# Altium schematic symbol library Schlib_Smart_Switchboard.SchLib: 52 symbols
Pins are listed as number, name and electrical type; pins without a type are passive.

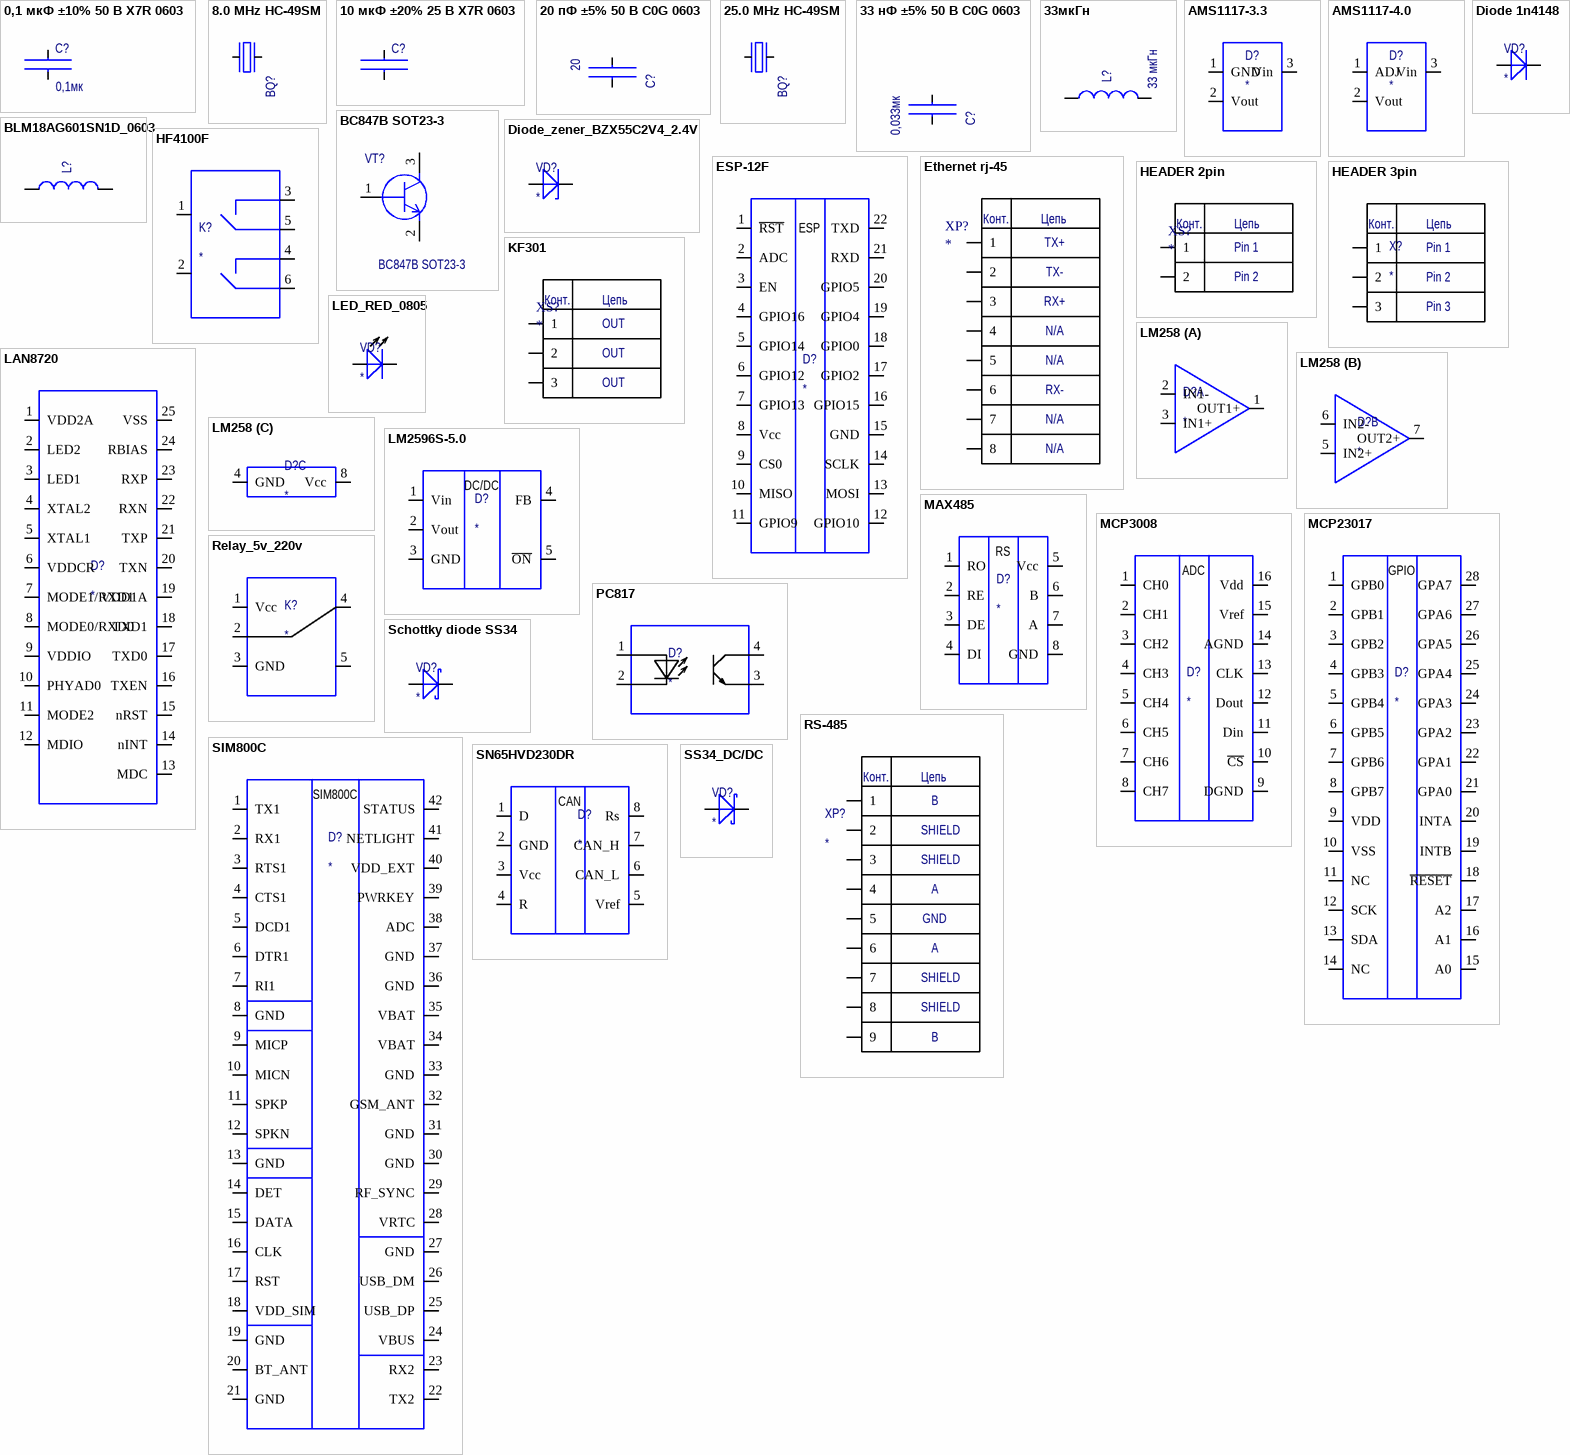
[diagram p0: symbols 0,1 мкФ ±10% 50 В X7R 0603 to SS34_DC/DC]

## 0,1 мкФ ±10% 50 В X7R 0603
designator C?, comment Capacitor  (value not drawn)
0,1 мкФ ±10% 50 В X7R 0603; Manufacturer 1: YAGEO; Manufacturer Part Number 1: CC0603JRX7R9BB104; Tolerance: ±5%; Voltage: 50 В; Part Number: 0,1 мкФ ±10% 50 В X7R 0603; Dielectric: X7R; Size: 0603; 0,1мк: 0,1мк
footprint C0603
pins: 1, 2

## 8.0 MHz HC-49SM
designator BQ?, comment Quartz Crystal  (value not drawn)
Кварцевый резонатор 1-2 выводы; Manufacturer 1: SJK; Manufacturer Part Number 1: SJK-6C-8.000-16-30-50-C-50-HSJK-6C-8.000-16-30-50-C-50-H; CompType: 25.0 MHz; Value: 8 МГц; Size: HC-49
footprint HC49_SMD
pins: 1, 2

## 10 мкФ ±20% 25 В X7R 0603
designator C?, comment Capacitor  (value not drawn)
Manufacturer 1: MURATA; Manufacturer Part Number 1: GRM188R61C106KAALD; Tolerance: ±10%; Voltage: 16 В; Dielectric: X5R; Size: 0603
footprint C0603
pins: 1, 2

## 20 пФ ±5% 50 В C0G 0603
designator C?, comment value 20  (hidden comment: Capacitor)
20 пФ ±5% 50 В C0G 0603; Part Number: 20 пФ ±5% 50 В NPO 0603; Manufacturer 1: MURATA; Manufacturer Part Number 1: GRM1885C1H200J; Voltage: 50 В; Dielectric: NPO; Tolerance: ±5%; Size: 0603
footprint C0603
pins: 1, 2

## 25.0 MHz HC-49SM
designator BQ?, comment Quartz Crystal  (value not drawn)
Кварцевый резонатор 1-2 выводы; Manufacturer 1: SJK; Manufacturer Part Number 1: SJK-6C-25.000-16-50-30-F-C-50-HJ; CompType: 25.0 MHz; Value: 25 МГц; Size: HC-49
footprint HC49_SMD
pins: 1, 2

## 33 нФ ±5% 50 В C0G 0603
designator C?, comment value 0,033мк  (hidden comment: Capacitor)
Manufacturer 1: MURATA; Manufacturer Part Number 1: GRM188F51E333ZA01D; Tolerance: ±10%; Voltage: 25 В; Dielectric: Y5V; Size: 0603
footprint R0603
pins: 1, 2

## 33мкГн
designator L?, comment value 33 мкГн  (hidden comment: Inductor)
Manufacturer Part Number 1: CDSPQ105-330M; Manufacturer 1: CODACA; Tolerance: ±20%
footprint CDRH127
pins: 1, 2

## AMS1117-3.3
designator D?
Manufacturer 1: UMW; Manufacturer Part Number 1: AMS1117-3.3
footprint SOT230P700X180-4N (SOT223, 4-Leads, Body 6,50x7,00mm (avg), Pitch 2,30mm, IPC Medium Density)
pins: 1 GND, 2 Vout, 3 Vin

## AMS1117-4.0
designator D?
Manufacturer 1: UMW; Manufacturer Part Number 1: AMS1117-3.3
footprint SOT230P700X180-4N (SOT223, 4-Leads, Body 6,50x7,00mm (avg), Pitch 2,30mm, IPC Medium Density)
pins: 1 ADJ, 2 Vout, 3 Vin

## BC847B SOT23-3
designator VT?
NPN Transistor; Manufacturer 1: Hottech; Part Number: BC847B SOT23-3; CompType: BC847B; Size: SOT23-3; Manufacturer Part Number 1: BC847B
footprint INF-SOT23_M (SOT23, 3-Leads, Body 2.9x1.3 mm, Pitch 0.95 mm, IPC Low Density)
pins: 1 B, 2 E, 3 K

## BLM18AG601SN1D_0603
designator L?, comment Inductor  (value not drawn)
Manufacturer Part Number 1: BLM18AG601SN1D; Manufacturer 1: MURATA
footprint L0603
pins: 1, 2

## Diode 1n4148
designator VD?
Manufacturer Part Number 1: 1N4148WS; Manufacturer 1: Hottech
footprint SOD323 (SOD, 2-Leads, Body 1.25x2.50mm, IPC Medium Density)
pins: 1, 2

## Diode_zener_BZX55C2V4_2.4V
designator VD?
Diode_zener_BZX55C2V4_2.4V; Manufacturer 1: LGE; Manufacturer Part Number 1: BZX55C2V4
footprint DO-35 (Diode, Axial; Body 3.8 x 1.9 mm (LxDia. max), Lead Dia. 0.53 mm (max))
pins: 1, 2

## ESP-12F
designator D?
footprint ESP8266 ESP-12-E
pins: 1 ~{RST}, 2 ADC, 3 EN, 4 GPIO16, 5 GPIO14, 6 GPIO12, 7 GPIO13, 8 Vcc, 9 CS0, 10 MISO, 11 GPIO9, 12 GPIO10, 13 MOSI, 14 SCLK, 15 GND, 16 GPIO15, 17 GPIO2, 18 GPIO0, 19 GPIO4, 20 GPIO5, 21 RXD, 22 TXD
text: ESP

## Ethernet rj-45
designator XP?
Ethernet
footprint RJ-45 (Connector; PCB Jack, Thru-Hole; 1-Port; Unshielded without Lightpipes; Right Angle)
pins: 1, 2, 3, 4, 5, 6, 7, 8
text: Конт.; Цепь; TX+; TX-; RX+; N/A; RX-

## HEADER 2pin
designator XS?
footprint HEADER 2 Pin
pins: 1, 2
text: Конт.; Цепь; Pin 1; Pin 2

## HEADER 3pin
designator X?
footprint HEADER-3pin
pins: 1, 2, 3
text: Конт.; Цепь; Pin 1; Pin 2; Pin 3

## HF4100F
designator K?
footprint HK4100F
pins: 1, 2, 3, 4, 5, 6

## KF301
designator XS?
Manufacturer Part Number 1: KF301-5.0-3P; Manufacturer 1: CIXI SANHE
footprint KF301-5.08-3P (KF301, pitch 5.08mm, 3Pins, 300V, 16A (250V, 17A))
pins: 1, 2, 3
text: Конт.; Цепь; OUT

## LAN8720
designator D?
Manufacturer Part Number 1: LAN8720AI-CP-TR; Manufacturer 1: Microchip Technology
footprint SLAB-QFN-24-2675x2675TP_N (QFN, 24-Leads, Body 4x4mm, Pitch 0.5mm, Thermal Pad 2.68x2.68mm, IPC Medium Density)
pins: 1 VDD2A, 2 LED2, 3 LED1, 4 XTAL2, 5 XTAL1, 6 VDDCR, 7 MODE1/RXD1, 8 MODE0/RXD0, 9 VDDIO, 10 PHYAD0, 11 MODE2, 12 MDIO, 13 MDC, 14 nINT, 15 nRST, 16 TXEN, 17 TXD0, 18 TXD1, 19 VDD1A, 20 TXN, 21 TXP, 22 RXN, 23 RXP, 24 RBIAS, 25 VSS

## LED_RED_0805
designator VD?
Manufacturer Part Number 1: KPHCM-2012SURCK; Manufacturer 1: Kingbright
footprint VD0805
pins: 1, 2

## LM258
designator D?
Manufacturer 1: Texas Instruments; Manufacturer Part Number 1: LM258ADR
footprint TI VSSOP-8 DGK (TSOP, 8-Leads, Body 3.00x3.00mm, Pitch 0.65mm, IPC Medium Density)
part A pins: 1 OUT1+, 2 IN1-, 3 IN1+
part B pins: 5 IN2+, 6 IN2-, 7 OUT2+
part C pins: 4 GND, 8 Vcc

## LM2596S-5.0
designator D?
Manufacturer 1: UMW; Manufacturer Part Number 1: LM2596S-5.0
footprint TO-263-5 (D2-PAK, 6-Pads, Body 8,9x9,9mm (max), IPC Low Density)
pins: 1 Vin, 2 Vout, 3 GND, 4 FB, 5 ~{ON}
text: DC/DC

## MAX485
designator D?
Manufacturer 1: UMW; Manufacturer Part Number 1: MAX485ESA
footprint SOIC-8
pins: 1 RO, 2 RE, 3 DE, 4 DI, 5 Vcc, 6 B, 7 A, 8 GND
text: RS

## MCP3008
designator D?
Manufacturer 1: Microchip Technology; Manufacturer Part Number 1: MCP3008-I/SL
footprint SO-16 (SOIC, 16-Leads, Body 9.9x3.9mm, Pitch 1.27mm, IPC Medium Density)
pins: 1 CH0, 2 CH1, 3 CH2, 4 CH3, 5 CH4, 6 CH5, 7 CH6, 8 CH7, 9 DGND, 10 ~{CS}, 11 Din, 12 Dout, 13 CLK, 14 AGND, 15 Vref, 16 Vdd
text: ADC

## MCP23017
designator D?
Manufacturer 1: Microchip Technology; Manufacturer Part Number 1: MCP23017-E/SO
footprint SOP-28 (SOP, 28-Leads, Body 10,30x7,50mm, Pitch 1,27mm, IPC Medium Density)
pins: 1 GPB0, 2 GPB1, 3 GPB2, 4 GPB3, 5 GPB4, 6 GPB5, 7 GPB6, 8 GPB7, 9 VDD, 10 VSS, 11 NC, 12 SCK, 13 SDA, 14 NC, 15 A0, 16 A1, 17 A2, 18 ~{RESET}, 19 INTB, 20 INTA, 21 GPA0, 22 GPA1, 23 GPA2, 24 GPA3, 25 GPA4, 26 GPA5, 27 GPA6, 28 GPA7
text: GPIO

## PC817
designator D?
Manufacturer 1: UMW; Manufacturer Part Number 1: PC817C
footprint Model Name (Footprint not found)
footprint DIP-4
pins: 1 Anode, 2 Cathode, 3 Emitter, 4 Collector

## Relay_5v_220v
designator K?
Manufacturer 1: Ningbo Songle Relay; Manufacturer Part Number 1: SRD-05VDC-SL-C
footprint SRD-S-124D4
footprint SRD-S-124D4
pins: 1 Vcc, 2, 3 GND, 4, 5

## RS-485
designator XP?
footprint D-SUB 9
pins: 1, 2, 3, 4, 5, 6, 7, 8, 9
text: Конт.; Цепь; B; SHIELD; A; GND

## Schottky diode SS34
designator VD?
footprint SOD323 (SOD, 2-Leads, Body 1.25x2.50mm, IPC Medium Density)
pins: 1, 2

## SIM800C
designator D?
footprint SIM800C
pins: 1 TX1, 2 RX1, 3 RTS1, 4 CTS1, 5 DCD1, 6 DTR1, 7 RI1, 8 GND, 9 MICP, 10 MICN, 11 SPKP, 12 SPKN, 13 GND, 14 DET, 15 DATA, 16 CLK, 17 RST, 18 VDD_SIM, 19 GND, 20 BT_ANT, 21 GND, 22 TX2, 23 RX2, 24 VBUS, 25 USB_DP, 26 USB_DM, 27 GND, 28 VRTC, 29 RF_SYNC, 30 GND, 31 GND, 32 GSM_ANT, 33 GND, 34 VBAT, 35 VBAT, 36 GND, 37 GND, 38 ADC, 39 PWRKEY, 40 VDD_EXT, 41 NETLIGHT, 42 STATUS

## SN65HVD230DR
designator D?
footprint SOIC-8
pins: 1 D, 2 GND, 3 Vcc, 4 R, 5 Vref, 6 CAN_L, 7 CAN_H, 8 Rs
text: CAN

## SS34_DC/DC
designator VD?
Manufacturer Part Number 1: SS34; Manufacturer 1: UMW
footprint DO214AC SMA (Molded Diode, 2-Leads, Body 4.30x2.60mm, IPC Medium Density)
pins: 1, 2

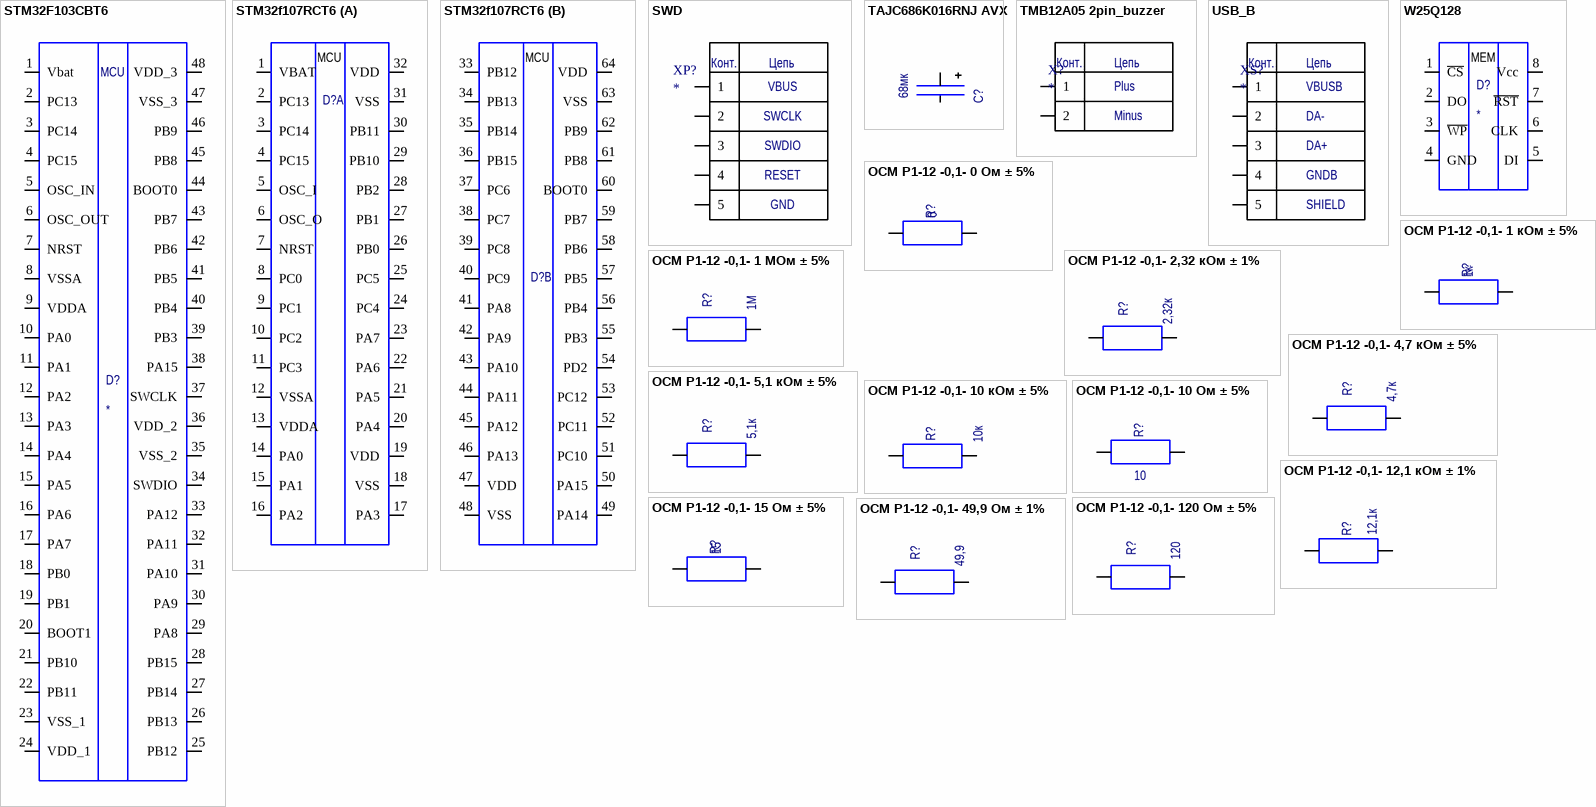
[diagram p1: symbols STM32F103CBT6 to ОСМ Р1-12 -0,1- 120 Ом ± 5%]

## STM32F103CBT6
designator D?
footprint LQFP48 (TSQFP, 48-Leads, Body 9,0x9,0mm (max), Pitch 0,50mm, IPC Medium Density)
pins: 1 Vbat, 2 PC13, 3 PC14, 4 PC15, 5 OSC_IN, 6 OSC_OUT, 7 NRST, 8 VSSA, 9 VDDA, 10 PA0, 11 PA1, 12 PA2, 13 PA3, 14 PA4, 15 PA5, 16 PA6, 17 PA7, 18 PB0, 19 PB1, 20 BOOT1, 21 PB10, 22 PB11, 23 VSS_1, 24 VDD_1, 25 PB12, 26 PB13, 27 PB14, 28 PB15, 29 PA8, 30 PA9, 31 PA10, 32 PA11, 33 PA12, 34 SWDIO, 35 VSS_2, 36 VDD_2, 37 SWCLK, 38 PA15, 39 PB3, 40 PB4, 41 PB5, 42 PB6, 43 PB7, 44 BOOT0, 45 PB8, 46 PB9, 47 VSS_3, 48 VDD_3
text: MCU

## STM32f107RCT6
designator D?  (value not drawn)
Manufacturer Part Number 1: STM32F107RCT6; Manufacturer 1: STMicroelectronics
footprint LQFP-64 (TSQFP, 64-Leads, Body 12,0x12,0mm (max), Pitch 0,50mm, IPC Low Density)
part A pins: 1 VBAT, 2 PC13, 3 PC14, 4 PC15, 5 OSC_I, 6 OSC_O, 7 NRST, 8 PC0, 9 PC1, 10 PC2, 11 PC3, 12 VSSA, 13 VDDA, 14 PA0, 15 PA1, 16 PA2, 17 PA3, 18 VSS, 19 VDD, 20 PA4, 21 PA5, 22 PA6, 23 PA7, 24 PC4, 25 PC5, 26 PB0, 27 PB1, 28 PB2, 29 PB10, 30 PB11, 31 VSS, 32 VDD
part B pins: 33 PB12, 34 PB13, 35 PB14, 36 PB15, 37 PC6, 38 PC7, 39 PC8, 40 PC9, 41 PA8, 42 PA9, 43 PA10, 44 PA11, 45 PA12, 46 PA13, 47 VDD, 48 VSS, 49 PA14, 50 PA15, 51 PC10, 52 PC11, 53 PC12, 54 PD2, 55 PB3, 56 PB4, 57 PB5, 58 PB6, 59 PB7, 60 BOOT0, 61 PB8, 62 PB9, 63 VSS, 64 VDD
part A text: MCU
part B text: MCU

## SWD
designator XP?
footprint HEADER-WR-PHD-2.54mm-5PIN-2
pins: 1, 2 (io), 3 (io), 4, 5
text: Конт.; Цепь; VBUS; SWCLK; SWDIO; RESET; GND

## TAJC686K016RNJ AVX
designator C?, comment value 68мк  (hidden comment: Capacitor)
68мкФ ±10% 16B; Manufacturer 1: AVX; Manufacturer Part Number 1: TAJC686K016RNJ; Voltage: 16 В; Tolerance: ±10%; Size: CASE C
footprint C-CASE
pins: 1, 2

## TMB12A05 2pin_buzzer
designator X?
footprint HEADER 2pin_buzzer
pins: 1, 2
text: Конт.; Цепь; Plus; Minus

## USB_B
designator XS?
Manufacturer 1: USBB-1J (DS1099-B); Manufacturer Part Number 1: Connfly electronic (Zhenqin)
footprint USB_B
pins: 1, 2 (io), 3 (io), 4, 5
text: Конт.; Цепь; VBUSB; DA-; DA+; GNDB; SHIELD

## W25Q128
designator D?
Manufacturer Part Number 1: W25Q128FVSIG; Manufacturer 1: Winbond Electronics
footprint TI VSSOP-8 DGK (TSOP, 8-Leads, Body 3.00x3.00mm, Pitch 0.65mm, IPC Medium Density)
pins: 1 ~{CS}, 2 DO, 3 ~{WP}, 4 GND, 5 DI, 6 CLK, 7 ~{RST}, 8 Vcc
text: MEM

## ОСМ Р1-12 -0,1- 0 Ом ± 5%
designator R?, comment value 0  (hidden comment: Resistor)
Manufacturer Part Number 1: RC0603JR-070RL; Manufacturer 1: YAGEO; Tolerance: ± 1% - М; Power: 0,1 Вт; Size: 0603
footprint R0603
pins: 1, 2

## ОСМ Р1-12 -0,1- 1 кОм ± 5%
designator R?, comment value 1к  (hidden comment: Resistor)
Manufacturer Part Number 1: RC0603JR-071KL; Manufacturer 1: YAGEO; Tolerance: ± 1% - М; Power: 0,1 Вт; TU: АЛЯР.434110.005ТУ, РД В 22.02.218; Size: 0603; HelpURL: Datasheets\Р1-12.pdf
footprint R0603
pins: 1, 2

## ОСМ Р1-12 -0,1- 1 МОм ± 5%
designator R?, comment value 1М  (hidden comment: Resistor)
Manufacturer Part Number 1: RC0603FR-071ML; Manufacturer 1: YAGEO; Tolerance: ± 1% - М; Power: 0,1 Вт; Size: 0603
footprint R0603
pins: 1, 2

## ОСМ Р1-12 -0,1- 2,32 кОм ± 1%
designator R?, comment value 2,32к  (hidden comment: Resistor)
Manufacturer Part Number 1: RC0603FR-072K32L; Manufacturer 1: YAGEO; Tolerance: ± 1% - М; Power: 0,1 Вт; Size: 0603
footprint R0603
pins: 1, 2

## ОСМ Р1-12 -0,1- 4,7 кОм ± 5%
designator R?, comment value 4,7к  (hidden comment: Resistor)
Manufacturer Part Number 1: RC0603FR-074K7L; Manufacturer 1: YAGEO; Tolerance: ± 1% - М; Power: 0,1 Вт; Size: 0603
footprint R0603
pins: 1, 2

## ОСМ Р1-12 -0,1- 5,1 кОм ± 5%
designator R?, comment value 5,1к  (hidden comment: Resistor)
Manufacturer Part Number 1: RC0603FR-075K1L; Manufacturer 1: YAGEO; Tolerance: ± 1% - М; Power: 0,1 Вт; Size: 0603
footprint R0603
pins: 1, 2

## ОСМ Р1-12 -0,1- 10 кОм ± 5%
designator R?, comment value 10к  (hidden comment: Resistor)
Manufacturer Part Number 1: RC0603FR-0710K; Manufacturer 1: YAGEO; Tolerance: ± 1% - М; Power: 0,1 Вт; Size: 0603
footprint R0603
pins: 1, 2

## ОСМ Р1-12 -0,1- 10 Ом ± 5%
designator R?, comment value 10  (hidden comment: Resistor)
Manufacturer Part Number 1: RC0603FR-0710RL; Manufacturer 1: YAGEO; Tolerance: ± 1% - М; Power: 0,1 Вт; Size: 0603
footprint R0603
pins: 1, 2

## ОСМ Р1-12 -0,1- 12,1 кОм ± 1%
designator R?, comment value 12,1к  (hidden comment: Resistor)
Manufacturer Part Number 1: RC0603FR-0712K1L; Manufacturer 1: YAGEO; Tolerance: ± 1% - М; Power: 0,1 Вт; Size: 0603
footprint R0603
pins: 1, 2

## ОСМ Р1-12 -0,1- 15 Ом ± 5%
designator R?, comment value 15  (hidden comment: Resistor)
Manufacturer Part Number 1: RC0603FR-0715RL; Manufacturer 1: YAGEO; Tolerance: ± 1% - М; Power: 0,1 Вт; Size: 0603
footprint R0603
pins: 1, 2

## ОСМ Р1-12 -0,1- 49,9 Ом ± 1%
designator R?, comment value 49,9  (hidden comment: Resistor)
Manufacturer Part Number 1: RI0603L49R9FT; Manufacturer 1: Hottech; Tolerance: ± 1% - М; Power: 0,1 Вт; Size: 0603
footprint R0603
pins: 1, 2

## ОСМ Р1-12 -0,1- 120 Ом ± 5%
designator R?, comment value 120  (hidden comment: Resistor)
Manufacturer Part Number 1: RC0603FR-07120RL; Manufacturer 1: YAGEO; Tolerance: ± 1% - М; Power: 0,1 Вт; Size: 0603
footprint R0603
pins: 1, 2